# Altium integrated library Linear Technology Power Management Switching Regulator LTC1174-LTC3901.IntLib: 2647 symbols (part 88 of 364)
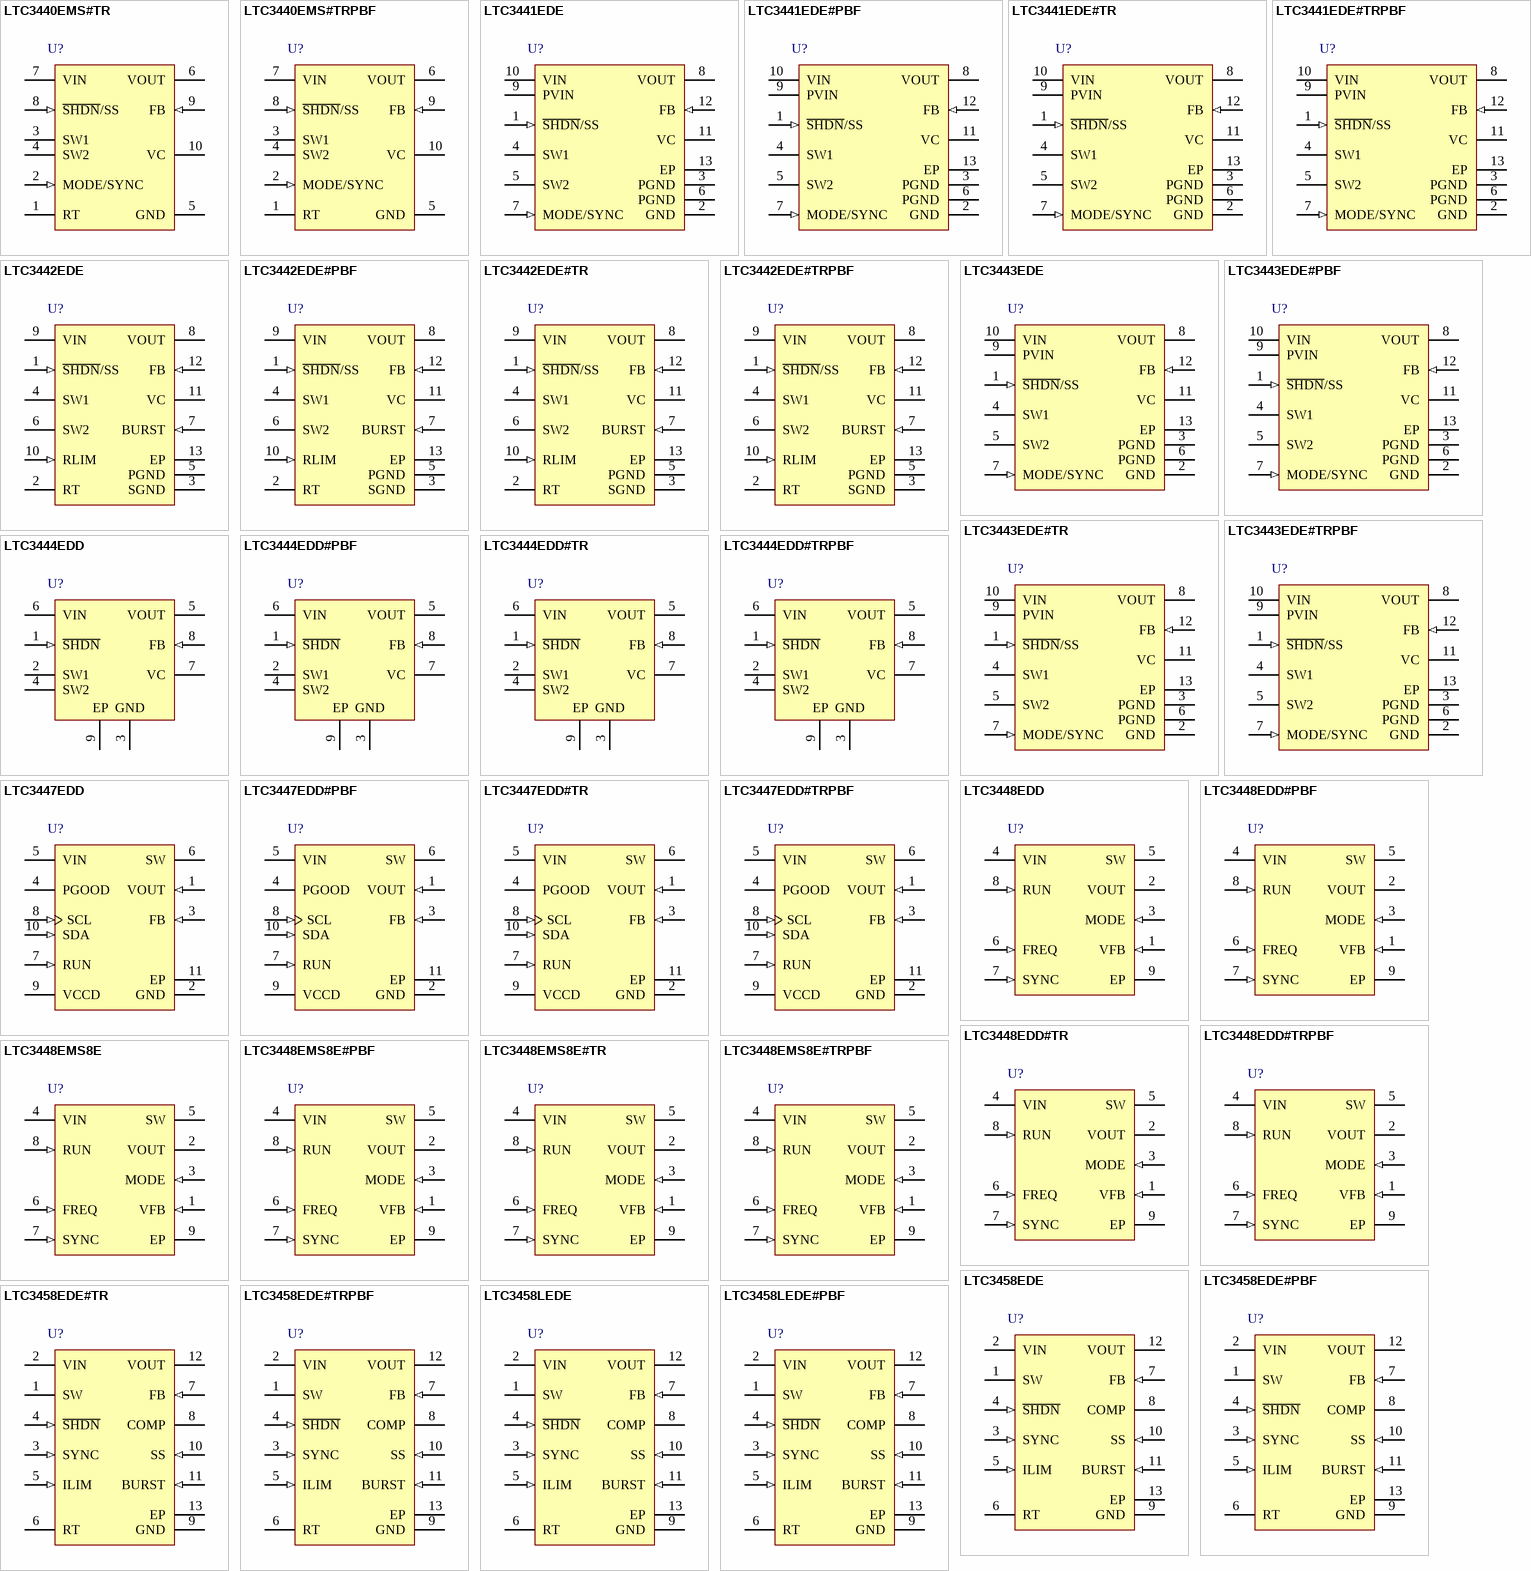
[diagram p160: symbols LTC3440EMS#TR to LTC3458LEDE#PBF]

## LTC3448EDD#PBF
designator U?
1.5 MHz / 2.25 MHz, 600 mA Synchronous Step-Down Regulator with LDO Mode, 8-pin SON (DD-8), -40 to 85 degC, Pb-Free; Manufacturer: Linear Technology; PartNumber: LTC3448EDD#PBF; Number of Outputs: 1; PackageVersion: Jun-10; PackageReference: DD-8; PackageDescription: 8-Pin Plastic DFN, Body 3 x 3 mm, Pitch 0.5 mm; Supplier 1: Digi-Key; Supplier Part Number 1: LTC3448EDD#PBF-ND; RoHS: TRUE; Mounting Technology: Surface Mount; Code_JEDEC: MO-229; ComponentLink1Description: Manufacturer URL; ComponentLink1URL: http://www.linear.com/; ComponentLink2Description: Datasheet; ComponentLink2URL: http://cds.linear.com/docs/en/datasheet/3448f.pdf; ComponentLink3Description: Package Specification; ComponentLink3URL: http://cds.linear.com/docs/en/packaging/DFN_8_05-08-1698.pdf
footprint LT-DD-8_V (SON, 8-Leads, Body 3x3mm, Pitch 0.5mm, Thermal Pad 1.65x2.38 mm)
pins: 1 VFB (in) "Feedback Pin. This pin receives the feedback voltage from an external resistive divider across the output.", 2 VOUT (power) "Output Pin. This pin connects to an external resistor divider and the linear regulator output. Connect externally to the inductor and the output capacitor. The internal linear regulator will supply current up to the (See Datasheet)", 3 MODE (in) "Linear Regulator Control. Grounding this pin turns off the linear regulator. Setting this pin to VIN turns on the linear regulator regardless of the load current. Tying this pin midrange (i.e., to VOUT) will place the linear (See Datasheet)", 4 VIN (power) "Main Supply Pin. This pin must be closely decoupled to GND with a 2.2uF or greater ceramic capacitor.", 5 SW (power) "Switch Node Connection to Inductor. This pin connects to the drains of the internal main and synchronous power MOSFET switches.", 6 FREQ (in) "Frequency Select. Switching frequency is set to 1.5MHz when FREQ = 0V and to 2.25MHz when FREQ = VIN. Do not float this pin.", 7 SYNC (in) "External Synchronization Pin. The oscillation frequency can be synchronized to an external oscillator applied to this pin. For external frequencies above 2.2MHz, pull FREQ high.", 8 RUN (in) "Run Control Input. Forcing this pin above 1.5V enables the part. Forcing this pin below 0.3V shuts down the device. In shutdown, all functions are disabled drawing <1uA supply current. Do not leave RUN floating.", 9 EP (power) "Ground. This pin must be soldered to PCB."

## LTC3448EDD#TR
designator U?
1.5 MHz / 2.25 MHz, 600 mA Synchronous Step-Down Regulator with LDO Mode, 8-pin SON (DD-8), -40 to 85 degC, Tape and Reel; Manufacturer: Linear Technology; PartNumber: LTC3448EDD#TR; Number of Outputs: 1; PackageVersion: Jun-10; PackageReference: DD-8; PackageDescription: 8-Pin Plastic DFN, Body 3 x 3 mm, Pitch 0.5 mm; Packing: Tape and Reel; RoHS: FALSE; Mounting Technology: Surface Mount; Code_JEDEC: MO-229; ComponentLink1Description: Manufacturer URL; ComponentLink1URL: http://www.linear.com/; ComponentLink2Description: Datasheet; ComponentLink2URL: http://cds.linear.com/docs/en/datasheet/3448f.pdf; ComponentLink3Description: Package Specification; ComponentLink3URL: http://cds.linear.com/docs/en/packaging/DFN_8_05-08-1698.pdf
footprint LT-DD-8_V (SON, 8-Leads, Body 3x3mm, Pitch 0.5mm, Thermal Pad 1.65x2.38 mm)
pins: 1 VFB (in) "Feedback Pin. This pin receives the feedback voltage from an external resistive divider across the output.", 2 VOUT (power) "Output Pin. This pin connects to an external resistor divider and the linear regulator output. Connect externally to the inductor and the output capacitor. The internal linear regulator will supply current up to the (See Datasheet)", 3 MODE (in) "Linear Regulator Control. Grounding this pin turns off the linear regulator. Setting this pin to VIN turns on the linear regulator regardless of the load current. Tying this pin midrange (i.e., to VOUT) will place the linear (See Datasheet)", 4 VIN (power) "Main Supply Pin. This pin must be closely decoupled to GND with a 2.2uF or greater ceramic capacitor.", 5 SW (power) "Switch Node Connection to Inductor. This pin connects to the drains of the internal main and synchronous power MOSFET switches.", 6 FREQ (in) "Frequency Select. Switching frequency is set to 1.5MHz when FREQ = 0V and to 2.25MHz when FREQ = VIN. Do not float this pin.", 7 SYNC (in) "External Synchronization Pin. The oscillation frequency can be synchronized to an external oscillator applied to this pin. For external frequencies above 2.2MHz, pull FREQ high.", 8 RUN (in) "Run Control Input. Forcing this pin above 1.5V enables the part. Forcing this pin below 0.3V shuts down the device. In shutdown, all functions are disabled drawing <1uA supply current. Do not leave RUN floating.", 9 EP (power) "Ground. This pin must be soldered to PCB."

## LTC3448EDD#TRPBF
designator U?
1.5 MHz / 2.25 MHz, 600 mA Synchronous Step-Down Regulator with LDO Mode, 8-pin SON (DD-8), -40 to 85 degC, Pb-Free, Tape and Reel; Manufacturer: Linear Technology; PartNumber: LTC3448EDD#TRPBF; Number of Outputs: 1; PackageVersion: Jun-10; PackageReference: DD-8; PackageDescription: 8-Pin Plastic DFN, Body 3 x 3 mm, Pitch 0.5 mm; Supplier 1: Digi-Key; Supplier Part Number 1: LTC3448EDD#TRPBF-ND; Packing: Tape and Reel; RoHS: TRUE; Mounting Technology: Surface Mount; Code_JEDEC: MO-229; ComponentLink1Description: Manufacturer URL; ComponentLink1URL: http://www.linear.com/; ComponentLink2Description: Datasheet; ComponentLink2URL: http://cds.linear.com/docs/en/datasheet/3448f.pdf; ComponentLink3Description: Package Specification; ComponentLink3URL: http://cds.linear.com/docs/en/packaging/DFN_8_05-08-1698.pdf
footprint LT-DD-8_V (SON, 8-Leads, Body 3x3mm, Pitch 0.5mm, Thermal Pad 1.65x2.38 mm)
pins: 1 VFB (in) "Feedback Pin. This pin receives the feedback voltage from an external resistive divider across the output.", 2 VOUT (power) "Output Pin. This pin connects to an external resistor divider and the linear regulator output. Connect externally to the inductor and the output capacitor. The internal linear regulator will supply current up to the (See Datasheet)", 3 MODE (in) "Linear Regulator Control. Grounding this pin turns off the linear regulator. Setting this pin to VIN turns on the linear regulator regardless of the load current. Tying this pin midrange (i.e., to VOUT) will place the linear (See Datasheet)", 4 VIN (power) "Main Supply Pin. This pin must be closely decoupled to GND with a 2.2uF or greater ceramic capacitor.", 5 SW (power) "Switch Node Connection to Inductor. This pin connects to the drains of the internal main and synchronous power MOSFET switches.", 6 FREQ (in) "Frequency Select. Switching frequency is set to 1.5MHz when FREQ = 0V and to 2.25MHz when FREQ = VIN. Do not float this pin.", 7 SYNC (in) "External Synchronization Pin. The oscillation frequency can be synchronized to an external oscillator applied to this pin. For external frequencies above 2.2MHz, pull FREQ high.", 8 RUN (in) "Run Control Input. Forcing this pin above 1.5V enables the part. Forcing this pin below 0.3V shuts down the device. In shutdown, all functions are disabled drawing <1uA supply current. Do not leave RUN floating.", 9 EP (power) "Ground. This pin must be soldered to PCB."

## LTC3448EMS8E
designator U?
1.5 MHz / 2.25 MHz, 600 mA Synchronous Step-Down Regulator with LDO Mode, 8-pin SOP (MS8E-8), -40 to 85 degC; Manufacturer: Linear Technology; PartNumber: LTC3448EMS8E; Number of Outputs: 1; PackageVersion: Rev. E; PackageReference: MS8E-8; PackageDescription: 8-Pin Plastic MSOP, Exposed Die Pad, Body 3 x 3 mm, Pitch 0.65 mm; Supplier 1: Digi-Key; Supplier Part Number 1: LTC3448EMS8E-ND; RoHS: FALSE; Mounting Technology: Surface Mount; ComponentLink1Description: Manufacturer URL; ComponentLink1URL: http://www.linear.com/; ComponentLink2Description: Datasheet; ComponentLink2URL: http://cds.linear.com/docs/en/datasheet/3448f.pdf; ComponentLink3Description: Package Specification; ComponentLink3URL: http://cds.linear.com/docs/en/datasheet/4070fc.pdf
footprint LT-MS8E-8-2060X1830TP_N (SOP, 8-Leads, Body 3.1x3.1mm, Pitch 0.65mm, Thermal Pad 2.162x1.932mm, IPC Medium Density)
footprint LT-MS8E-8-2060X1830TP_L (SOP, 8-Leads, Body 3.1x3.1mm, Pitch 0.65mm, Thermal Pad 2.162x1.932mm, IPC High Density)
footprint LT-MS8E-8-2060X1830TP_M (SOP, 8-Leads, Body 3.1x3.1mm, Pitch 0.65mm, Thermal Pad 2.162x1.932mm, IPC Low Density)
pins: 1 VFB (in) "Feedback Pin. This pin receives the feedback voltage from an external resistive divider across the output.", 2 VOUT (power) "Output Pin. This pin connects to an external resistor divider and the linear regulator output. Connect externally to the inductor and the output capacitor. The internal linear regulator will supply current up to the (See Datasheet)", 3 MODE (in) "Linear Regulator Control. Grounding this pin turns off the linear regulator. Setting this pin to VIN turns on the linear regulator regardless of the load current. Tying this pin midrange (i.e., to VOUT) will place the linear (See Datasheet)", 4 VIN (power) "Main Supply Pin. This pin must be closely decoupled to GND with a 2.2uF or greater ceramic capacitor.", 5 SW (power) "Switch Node Connection to Inductor. This pin connects to the drains of the internal main and synchronous power MOSFET switches.", 6 FREQ (in) "Frequency Select. Switching frequency is set to 1.5MHz when FREQ = 0V and to 2.25MHz when FREQ = VIN. Do not float this pin.", 7 SYNC (in) "External Synchronization Pin. The oscillation frequency can be synchronized to an external oscillator applied to this pin. For external frequencies above 2.2MHz, pull FREQ high.", 8 RUN (in) "Run Control Input. Forcing this pin above 1.5V enables the part. Forcing this pin below 0.3V shuts down the device. In shutdown, all functions are disabled drawing <1uA supply current. Do not leave RUN floating.", 9 EP (power) "Ground. This pin must be soldered to PCB."

## LTC3448EMS8E#PBF
designator U?
1.5 MHz / 2.25 MHz, 600 mA Synchronous Step-Down Regulator with LDO Mode, 8-pin SOP (MS8E-8), -40 to 85 degC, Pb-Free; Manufacturer: Linear Technology; PartNumber: LTC3448EMS8E#PBF; Number of Outputs: 1; PackageVersion: Rev. E; PackageReference: MS8E-8; PackageDescription: 8-Pin Plastic MSOP, Exposed Die Pad, Body 3 x 3 mm, Pitch 0.65 mm; Supplier 1: Digi-Key; Supplier Part Number 1: LTC3448EMS8E#PBF-ND; Supplier 2: Newark; Supplier Part Number 2: 56M7831; RoHS: TRUE; Mounting Technology: Surface Mount; ComponentLink1Description: Manufacturer URL; ComponentLink1URL: http://www.linear.com/; ComponentLink2Description: Datasheet; ComponentLink2URL: http://cds.linear.com/docs/en/datasheet/3448f.pdf; ComponentLink3Description: Package Specification; ComponentLink3URL: http://cds.linear.com/docs/en/datasheet/4070fc.pdf
footprint LT-MS8E-8-2060X1830TP_N (SOP, 8-Leads, Body 3.1x3.1mm, Pitch 0.65mm, Thermal Pad 2.162x1.932mm, IPC Medium Density)
footprint LT-MS8E-8-2060X1830TP_L (SOP, 8-Leads, Body 3.1x3.1mm, Pitch 0.65mm, Thermal Pad 2.162x1.932mm, IPC High Density)
footprint LT-MS8E-8-2060X1830TP_M (SOP, 8-Leads, Body 3.1x3.1mm, Pitch 0.65mm, Thermal Pad 2.162x1.932mm, IPC Low Density)
pins: 1 VFB (in) "Feedback Pin. This pin receives the feedback voltage from an external resistive divider across the output.", 2 VOUT (power) "Output Pin. This pin connects to an external resistor divider and the linear regulator output. Connect externally to the inductor and the output capacitor. The internal linear regulator will supply current up to the (See Datasheet)", 3 MODE (in) "Linear Regulator Control. Grounding this pin turns off the linear regulator. Setting this pin to VIN turns on the linear regulator regardless of the load current. Tying this pin midrange (i.e., to VOUT) will place the linear (See Datasheet)", 4 VIN (power) "Main Supply Pin. This pin must be closely decoupled to GND with a 2.2uF or greater ceramic capacitor.", 5 SW (power) "Switch Node Connection to Inductor. This pin connects to the drains of the internal main and synchronous power MOSFET switches.", 6 FREQ (in) "Frequency Select. Switching frequency is set to 1.5MHz when FREQ = 0V and to 2.25MHz when FREQ = VIN. Do not float this pin.", 7 SYNC (in) "External Synchronization Pin. The oscillation frequency can be synchronized to an external oscillator applied to this pin. For external frequencies above 2.2MHz, pull FREQ high.", 8 RUN (in) "Run Control Input. Forcing this pin above 1.5V enables the part. Forcing this pin below 0.3V shuts down the device. In shutdown, all functions are disabled drawing <1uA supply current. Do not leave RUN floating.", 9 EP (power) "Ground. This pin must be soldered to PCB."

## LTC3448EMS8E#TR
designator U?
1.5 MHz / 2.25 MHz, 600 mA Synchronous Step-Down Regulator with LDO Mode, 8-pin SOP (MS8E-8), -40 to 85 degC, Tape and Reel; Manufacturer: Linear Technology; PartNumber: LTC3448EMS8E#TR; Number of Outputs: 1; PackageVersion: Rev. E; PackageReference: MS8E-8; PackageDescription: 8-Pin Plastic MSOP, Exposed Die Pad, Body 3 x 3 mm, Pitch 0.65 mm; Packing: Tape and Reel; RoHS: FALSE; Mounting Technology: Surface Mount; ComponentLink1Description: Manufacturer URL; ComponentLink1URL: http://www.linear.com/; ComponentLink2Description: Datasheet; ComponentLink2URL: http://cds.linear.com/docs/en/datasheet/3448f.pdf; ComponentLink3Description: Package Specification; ComponentLink3URL: http://cds.linear.com/docs/en/datasheet/4070fc.pdf
footprint LT-MS8E-8-2060X1830TP_N (SOP, 8-Leads, Body 3.1x3.1mm, Pitch 0.65mm, Thermal Pad 2.162x1.932mm, IPC Medium Density)
footprint LT-MS8E-8-2060X1830TP_L (SOP, 8-Leads, Body 3.1x3.1mm, Pitch 0.65mm, Thermal Pad 2.162x1.932mm, IPC High Density)
footprint LT-MS8E-8-2060X1830TP_M (SOP, 8-Leads, Body 3.1x3.1mm, Pitch 0.65mm, Thermal Pad 2.162x1.932mm, IPC Low Density)
pins: 1 VFB (in) "Feedback Pin. This pin receives the feedback voltage from an external resistive divider across the output.", 2 VOUT (power) "Output Pin. This pin connects to an external resistor divider and the linear regulator output. Connect externally to the inductor and the output capacitor. The internal linear regulator will supply current up to the (See Datasheet)", 3 MODE (in) "Linear Regulator Control. Grounding this pin turns off the linear regulator. Setting this pin to VIN turns on the linear regulator regardless of the load current. Tying this pin midrange (i.e., to VOUT) will place the linear (See Datasheet)", 4 VIN (power) "Main Supply Pin. This pin must be closely decoupled to GND with a 2.2uF or greater ceramic capacitor.", 5 SW (power) "Switch Node Connection to Inductor. This pin connects to the drains of the internal main and synchronous power MOSFET switches.", 6 FREQ (in) "Frequency Select. Switching frequency is set to 1.5MHz when FREQ = 0V and to 2.25MHz when FREQ = VIN. Do not float this pin.", 7 SYNC (in) "External Synchronization Pin. The oscillation frequency can be synchronized to an external oscillator applied to this pin. For external frequencies above 2.2MHz, pull FREQ high.", 8 RUN (in) "Run Control Input. Forcing this pin above 1.5V enables the part. Forcing this pin below 0.3V shuts down the device. In shutdown, all functions are disabled drawing <1uA supply current. Do not leave RUN floating.", 9 EP (power) "Ground. This pin must be soldered to PCB."

## LTC3448EMS8E#TRPBF
designator U?
1.5 MHz / 2.25 MHz, 600 mA Synchronous Step-Down Regulator with LDO Mode, 8-pin SOP (MS8E-8), -40 to 85 degC, Pb-Free, Tape and Reel; Manufacturer: Linear Technology; PartNumber: LTC3448EMS8E#TRPBF; Number of Outputs: 1; PackageVersion: Rev. E; PackageReference: MS8E-8; PackageDescription: 8-Pin Plastic MSOP, Exposed Die Pad, Body 3 x 3 mm, Pitch 0.65 mm; Supplier 1: Digi-Key; Supplier Part Number 1: LTC3448EMS8E#TRPBF-ND; Packing: Tape and Reel; RoHS: TRUE; Mounting Technology: Surface Mount; ComponentLink1Description: Manufacturer URL; ComponentLink1URL: http://www.linear.com/; ComponentLink2Description: Datasheet; ComponentLink2URL: http://cds.linear.com/docs/en/datasheet/3448f.pdf; ComponentLink3Description: Package Specification; ComponentLink3URL: http://cds.linear.com/docs/en/datasheet/4070fc.pdf
footprint LT-MS8E-8-2060X1830TP_N (SOP, 8-Leads, Body 3.1x3.1mm, Pitch 0.65mm, Thermal Pad 2.162x1.932mm, IPC Medium Density)
footprint LT-MS8E-8-2060X1830TP_L (SOP, 8-Leads, Body 3.1x3.1mm, Pitch 0.65mm, Thermal Pad 2.162x1.932mm, IPC High Density)
footprint LT-MS8E-8-2060X1830TP_M (SOP, 8-Leads, Body 3.1x3.1mm, Pitch 0.65mm, Thermal Pad 2.162x1.932mm, IPC Low Density)
pins: 1 VFB (in) "Feedback Pin. This pin receives the feedback voltage from an external resistive divider across the output.", 2 VOUT (power) "Output Pin. This pin connects to an external resistor divider and the linear regulator output. Connect externally to the inductor and the output capacitor. The internal linear regulator will supply current up to the (See Datasheet)", 3 MODE (in) "Linear Regulator Control. Grounding this pin turns off the linear regulator. Setting this pin to VIN turns on the linear regulator regardless of the load current. Tying this pin midrange (i.e., to VOUT) will place the linear (See Datasheet)", 4 VIN (power) "Main Supply Pin. This pin must be closely decoupled to GND with a 2.2uF or greater ceramic capacitor.", 5 SW (power) "Switch Node Connection to Inductor. This pin connects to the drains of the internal main and synchronous power MOSFET switches.", 6 FREQ (in) "Frequency Select. Switching frequency is set to 1.5MHz when FREQ = 0V and to 2.25MHz when FREQ = VIN. Do not float this pin.", 7 SYNC (in) "External Synchronization Pin. The oscillation frequency can be synchronized to an external oscillator applied to this pin. For external frequencies above 2.2MHz, pull FREQ high.", 8 RUN (in) "Run Control Input. Forcing this pin above 1.5V enables the part. Forcing this pin below 0.3V shuts down the device. In shutdown, all functions are disabled drawing <1uA supply current. Do not leave RUN floating.", 9 EP (power) "Ground. This pin must be soldered to PCB."

## LTC3458EDE
designator U?
1.4 A, 1.5 MHz Synchronous Step-Up DC/DC Converter with Output Disconnect, 12-pin SON (DE-UE-12), -40 to 85 degC; Manufacturer: Linear Technology; PartNumber: LTC3458EDE; Frequency Adjust Range: 400kHz - 1.5MHz; Number of Outputs: 1; DatasheetVersion: Rev. A; PackageVersion: Rev. D, 06/2010; PackageReference: DE-UE-12; PackageDescription: 12-Pin Plastic DFN, Body 4 x 3 mm, Pitch 0.5 mm; Supplier 1: Digi-Key; Supplier Part Number 1: LTC3458EDE-ND; RoHS: FALSE; Mounting Technology: Surface Mount; Code_JEDEC: MO-229; ComponentLink1Description: Manufacturer URL; ComponentLink1URL: http://www.linear.com/; ComponentLink2Description: Datasheet; ComponentLink2URL: http://cds.linear.com/docs/en/datasheet/3458Lfa.pdf; ComponentLink3Description: Package Specification; ComponentLink3URL: http://cds.linear.com/docs/en/packaging/DFN_12_05-08-1695.pdf
footprint LT-DE-UE-12_V (SON, 12-Leads, Body 4x3mm, Pitch 0.5mm, Thermal Pad 3.3x1.7mm)
pins: 1 SW "Switch Pin for Inductor Connection. During discontinuous conduction mode an antiring resistor connects SW to VIN to reduce noise.", 2 VIN (power) "Input Supply Pin. Connect this to the input supply and decouple with 1uF minimum.", 3 SYNC (in) "Oscillator Synchronization Pin. A clock pulse width of 100ns to 2us is required to synchronize the internal oscillator. This pin is disabled when grounded.", 4 ~{SHDN} (in) "Shutdown Pin. Grounding this pin shuts down the IC. Connect to >1.25V to enable.", 5 ILIM (in) "Adjustable Peak Current Limit. Connect a resistor from ILIM to GND to program the peak inductor current according to the following formula: ILIMIT=180/RILIM where ILIMIT is in amps and RILIM is in kohm.", 6 RT "Connect a resistor to ground to program the oscillator frequency, according to the formula:  Fosc = 1/(0.2+0.004 ?RT) where fOSC is in MHz and RT is in kohm. Oscillator frequency can be programmed between 400kHz and (See Datasheet)", 7 FB (in) "Connect Resistor Divider Tap Here. The output voltage can be adjusted from 2V to 6V. Feedback reference voltage is typically 1.225V.", 8 COMP "gm Error Amp Output. A frequency compensation network is connected from this pin to ground to compensate the loop. See the section “Compensating the Feedback Loop?for guidelines.", 9 GND (power) "Signal Ground Pin.", 10 SS (in) "Connect a capacitor between this pin and ground to set soft-start period. 5uA of current is sourced from SS during soft-start.", 11 BURST (in) "Burst Mode Threshold Adjust Pin. A resistor/capacitor combination from this pin to ground programs the average load current at which automatic Burst Mode operation is entered.", 12 VOUT (power) "Output of the Synchronous Rectifier and Internal Gate Drive Source for the Power Switches.", 13 EP (power) "Must be soldered to PCB ground, for electrical contact and optimum thermal performance."

## LTC3458EDE#PBF
designator U?
1.4 A, 1.5 MHz Synchronous Step-Up DC/DC Converter with Output Disconnect, 12-pin SON (DE-UE-12), -40 to 85 degC, Pb-Free; Manufacturer: Linear Technology; PartNumber: LTC3458EDE#PBF; Frequency Adjust Range: 400kHz - 1.5MHz; Number of Outputs: 1; DatasheetVersion: Rev. A; PackageVersion: Rev. D, 06/2010; PackageReference: DE-UE-12; PackageDescription: 12-Pin Plastic DFN, Body 4 x 3 mm, Pitch 0.5 mm; Supplier 1: Digi-Key; Supplier Part Number 1: LTC3458EDE#PBF-ND; Supplier 2: Farnell; Supplier Part Number 2: 1273945; Supplier 3: Newark; Supplier Part Number 3: 56M7859; RoHS: TRUE; Mounting Technology: Surface Mount; Code_JEDEC: MO-229; ComponentLink1Description: Manufacturer URL; ComponentLink1URL: http://www.linear.com/; ComponentLink2Description: Datasheet; ComponentLink2URL: http://cds.linear.com/docs/en/datasheet/3458Lfa.pdf; ComponentLink3Description: Package Specification; ComponentLink3URL: http://cds.linear.com/docs/en/packaging/DFN_12_05-08-1695.pdf
footprint LT-DE-UE-12_V (SON, 12-Leads, Body 4x3mm, Pitch 0.5mm, Thermal Pad 3.3x1.7mm)
pins: 1 SW "Switch Pin for Inductor Connection. During discontinuous conduction mode an antiring resistor connects SW to VIN to reduce noise.", 2 VIN (power) "Input Supply Pin. Connect this to the input supply and decouple with 1uF minimum.", 3 SYNC (in) "Oscillator Synchronization Pin. A clock pulse width of 100ns to 2us is required to synchronize the internal oscillator. This pin is disabled when grounded.", 4 ~{SHDN} (in) "Shutdown Pin. Grounding this pin shuts down the IC. Connect to >1.25V to enable.", 5 ILIM (in) "Adjustable Peak Current Limit. Connect a resistor from ILIM to GND to program the peak inductor current according to the following formula: ILIMIT=180/RILIM where ILIMIT is in amps and RILIM is in kohm.", 6 RT "Connect a resistor to ground to program the oscillator frequency, according to the formula:  Fosc = 1/(0.2+0.004 ?RT) where fOSC is in MHz and RT is in kohm. Oscillator frequency can be programmed between 400kHz and (See Datasheet)", 7 FB (in) "Connect Resistor Divider Tap Here. The output voltage can be adjusted from 2V to 6V. Feedback reference voltage is typically 1.225V.", 8 COMP "gm Error Amp Output. A frequency compensation network is connected from this pin to ground to compensate the loop. See the section “Compensating the Feedback Loop?for guidelines.", 9 GND (power) "Signal Ground Pin.", 10 SS (in) "Connect a capacitor between this pin and ground to set soft-start period. 5uA of current is sourced from SS during soft-start.", 11 BURST (in) "Burst Mode Threshold Adjust Pin. A resistor/capacitor combination from this pin to ground programs the average load current at which automatic Burst Mode operation is entered.", 12 VOUT (power) "Output of the Synchronous Rectifier and Internal Gate Drive Source for the Power Switches.", 13 EP (power) "Must be soldered to PCB ground, for electrical contact and optimum thermal performance."

## LTC3458EDE#TR
designator U?
1.4 A, 1.5 MHz Synchronous Step-Up DC/DC Converter with Output Disconnect, 12-pin SON (DE-UE-12), -40 to 85 degC, Tape and Reel; Manufacturer: Linear Technology; PartNumber: LTC3458EDE#TR; Frequency Adjust Range: 400kHz - 1.5MHz; Number of Outputs: 1; DatasheetVersion: Rev. A; PackageVersion: Rev. D, 06/2010; PackageReference: DE-UE-12; PackageDescription: 12-Pin Plastic DFN, Body 4 x 3 mm, Pitch 0.5 mm; Packing: Tape and Reel; RoHS: FALSE; Mounting Technology: Surface Mount; Code_JEDEC: MO-229; ComponentLink1Description: Manufacturer URL; ComponentLink1URL: http://www.linear.com/; ComponentLink2Description: Datasheet; ComponentLink2URL: http://cds.linear.com/docs/en/datasheet/3458Lfa.pdf; ComponentLink3Description: Package Specification; ComponentLink3URL: http://cds.linear.com/docs/en/packaging/DFN_12_05-08-1695.pdf
footprint LT-DE-UE-12_V (SON, 12-Leads, Body 4x3mm, Pitch 0.5mm, Thermal Pad 3.3x1.7mm)
pins: 1 SW "Switch Pin for Inductor Connection. During discontinuous conduction mode an antiring resistor connects SW to VIN to reduce noise.", 2 VIN (power) "Input Supply Pin. Connect this to the input supply and decouple with 1uF minimum.", 3 SYNC (in) "Oscillator Synchronization Pin. A clock pulse width of 100ns to 2us is required to synchronize the internal oscillator. This pin is disabled when grounded.", 4 ~{SHDN} (in) "Shutdown Pin. Grounding this pin shuts down the IC. Connect to >1.25V to enable.", 5 ILIM (in) "Adjustable Peak Current Limit. Connect a resistor from ILIM to GND to program the peak inductor current according to the following formula: ILIMIT=180/RILIM where ILIMIT is in amps and RILIM is in kohm.", 6 RT "Connect a resistor to ground to program the oscillator frequency, according to the formula:  Fosc = 1/(0.2+0.004 ?RT) where fOSC is in MHz and RT is in kohm. Oscillator frequency can be programmed between 400kHz and (See Datasheet)", 7 FB (in) "Connect Resistor Divider Tap Here. The output voltage can be adjusted from 2V to 6V. Feedback reference voltage is typically 1.225V.", 8 COMP "gm Error Amp Output. A frequency compensation network is connected from this pin to ground to compensate the loop. See the section “Compensating the Feedback Loop?for guidelines.", 9 GND (power) "Signal Ground Pin.", 10 SS (in) "Connect a capacitor between this pin and ground to set soft-start period. 5uA of current is sourced from SS during soft-start.", 11 BURST (in) "Burst Mode Threshold Adjust Pin. A resistor/capacitor combination from this pin to ground programs the average load current at which automatic Burst Mode operation is entered.", 12 VOUT (power) "Output of the Synchronous Rectifier and Internal Gate Drive Source for the Power Switches.", 13 EP (power) "Must be soldered to PCB ground, for electrical contact and optimum thermal performance."

## LTC3458EDE#TRPBF
designator U?
1.4 A, 1.5 MHz Synchronous Step-Up DC/DC Converter with Output Disconnect, 12-pin SON (DE-UE-12), -40 to 85 degC, Pb-Free, Tape and Reel; Manufacturer: Linear Technology; PartNumber: LTC3458EDE#TRPBF; Frequency Adjust Range: 400kHz - 1.5MHz; Number of Outputs: 1; DatasheetVersion: Rev. A; PackageVersion: Rev. D, 06/2010; PackageReference: DE-UE-12; PackageDescription: 12-Pin Plastic DFN, Body 4 x 3 mm, Pitch 0.5 mm; Supplier 1: Digi-Key; Supplier Part Number 1: LTC3458EDE#TRPBF-ND; Supplier 2: Newark; Supplier Part Number 2: 56M7861; Packing: Tape and Reel; RoHS: TRUE; Mounting Technology: Surface Mount; Code_JEDEC: MO-229; ComponentLink1Description: Manufacturer URL; ComponentLink1URL: http://www.linear.com/; ComponentLink2Description: Datasheet; ComponentLink2URL: http://cds.linear.com/docs/en/datasheet/3458Lfa.pdf; ComponentLink3Description: Package Specification; ComponentLink3URL: http://cds.linear.com/docs/en/packaging/DFN_12_05-08-1695.pdf
footprint LT-DE-UE-12_V (SON, 12-Leads, Body 4x3mm, Pitch 0.5mm, Thermal Pad 3.3x1.7mm)
pins: 1 SW "Switch Pin for Inductor Connection. During discontinuous conduction mode an antiring resistor connects SW to VIN to reduce noise.", 2 VIN (power) "Input Supply Pin. Connect this to the input supply and decouple with 1uF minimum.", 3 SYNC (in) "Oscillator Synchronization Pin. A clock pulse width of 100ns to 2us is required to synchronize the internal oscillator. This pin is disabled when grounded.", 4 ~{SHDN} (in) "Shutdown Pin. Grounding this pin shuts down the IC. Connect to >1.25V to enable.", 5 ILIM (in) "Adjustable Peak Current Limit. Connect a resistor from ILIM to GND to program the peak inductor current according to the following formula: ILIMIT=180/RILIM where ILIMIT is in amps and RILIM is in kohm.", 6 RT "Connect a resistor to ground to program the oscillator frequency, according to the formula:  Fosc = 1/(0.2+0.004 ?RT) where fOSC is in MHz and RT is in kohm. Oscillator frequency can be programmed between 400kHz and (See Datasheet)", 7 FB (in) "Connect Resistor Divider Tap Here. The output voltage can be adjusted from 2V to 6V. Feedback reference voltage is typically 1.225V.", 8 COMP "gm Error Amp Output. A frequency compensation network is connected from this pin to ground to compensate the loop. See the section “Compensating the Feedback Loop?for guidelines.", 9 GND (power) "Signal Ground Pin.", 10 SS (in) "Connect a capacitor between this pin and ground to set soft-start period. 5uA of current is sourced from SS during soft-start.", 11 BURST (in) "Burst Mode Threshold Adjust Pin. A resistor/capacitor combination from this pin to ground programs the average load current at which automatic Burst Mode operation is entered.", 12 VOUT (power) "Output of the Synchronous Rectifier and Internal Gate Drive Source for the Power Switches.", 13 EP (power) "Must be soldered to PCB ground, for electrical contact and optimum thermal performance."

## LTC3458LEDE
designator U?
1.7 A, 1.5 MHz Synchronous Step-Up DC/DC Converter with Output Disconnect, 12-pin SON (DE-UE-12), -40 to 85 degC; Manufacturer: Linear Technology; PartNumber: LTC3458LEDE; Frequency Adjust Range: 400kHz - 1.5MHz; Number of Outputs: 1; DatasheetVersion: Rev. A; PackageVersion: Rev. D, 06/2010; PackageReference: DE-UE-12; PackageDescription: 12-Pin Plastic DFN, Body 4 x 3 mm, Pitch 0.5 mm; Supplier 1: Digi-Key; Supplier Part Number 1: LTC3458LEDE-ND; RoHS: FALSE; Mounting Technology: Surface Mount; Code_JEDEC: MO-229; ComponentLink1Description: Manufacturer URL; ComponentLink1URL: http://www.linear.com/; ComponentLink2Description: Datasheet; ComponentLink2URL: http://cds.linear.com/docs/en/datasheet/3458Lfa.pdf; ComponentLink3Description: Package Specification; ComponentLink3URL: http://cds.linear.com/docs/en/packaging/DFN_12_05-08-1695.pdf
footprint LT-DE-UE-12_V (SON, 12-Leads, Body 4x3mm, Pitch 0.5mm, Thermal Pad 3.3x1.7mm)
pins: 1 SW (power) "Switch Pin for Inductor Connection. During discontinuous conduction mode an antiring resistor connects SW to VIN to reduce noise.", 2 VIN (power) "Input Supply Pin. Connect this to the input supply and decouple with 1uF minimum.", 3 SYNC (in) "Oscillator Synchronization Pin. A clock pulse width of 100ns to 2us is required to synchronize the internal oscillator. This pin is disabled when grounded.", 4 ~{SHDN} (in) "Shutdown Pin. Grounding this pin shuts down the IC. Connect to >1.25V to enable.", 5 ILIM (in) "Adjustable Peak Current Limit. Connect a resistor from ILIM to GND to program the peak inductor current according to the following formula: ILIMIT=180/RILIM where ILIMIT is in amps and RILIM is in kohm.", 6 RT "Connect a resistor to ground to program the oscillator frequency, according to the formula:  Fosc = 1/(0.2+0.004 ?RT) where fOSC is in MHz and RT is in kohm. Oscillator frequency can be programmed between 400kHz and (See Datasheet)", 7 FB (in) "Connect Resistor Divider Tap Here. The output voltage can be adjusted from 2V to 6V. Feedback reference voltage is typically 1.225V.", 8 COMP "gm Error Amp Output. A frequency compensation network is connected from this pin to ground to compensate the loop. See the section “Compensating the Feedback Loop?for guidelines.", 9 GND (power) "Signal Ground Pin.", 10 SS (in) "Connect a capacitor between this pin and ground to set soft-start period. 5uA of current is sourced from SS during soft-start.", 11 BURST (in) "Burst Mode Threshold Adjust Pin. A resistor/capacitor combination from this pin to ground programs the average load current at which automatic Burst Mode operation is entered.", 12 VOUT (power) "Output of the Synchronous Rectifier and Internal Gate Drive Source for the Power Switches.", 13 EP (power) "Must be soldered to PCB ground, for electrical contact and optimum thermal performance."

## LTC3458LEDE#PBF
designator U?
1.7 A, 1.5 MHz Synchronous Step-Up DC/DC Converter with Output Disconnect, 12-pin SON (DE-UE-12), -40 to 85 degC, Pb-Free; Manufacturer: Linear Technology; PartNumber: LTC3458LEDE#PBF; Frequency Adjust Range: 400kHz - 1.5MHz; Number of Outputs: 1; DatasheetVersion: Rev. A; PackageVersion: Rev. D, 06/2010; PackageReference: DE-UE-12; PackageDescription: 12-Pin Plastic DFN, Body 4 x 3 mm, Pitch 0.5 mm; Supplier 1: Digi-Key; Supplier Part Number 1: LTC3458LEDE#PBF-ND; Supplier 2: Newark; Supplier Part Number 2: 56M7863; RoHS: TRUE; Mounting Technology: Surface Mount; Code_JEDEC: MO-229; ComponentLink1Description: Manufacturer URL; ComponentLink1URL: http://www.linear.com/; ComponentLink2Description: Datasheet; ComponentLink2URL: http://cds.linear.com/docs/en/datasheet/3458Lfa.pdf; ComponentLink3Description: Package Specification; ComponentLink3URL: http://cds.linear.com/docs/en/packaging/DFN_12_05-08-1695.pdf
footprint LT-DE-UE-12_V (SON, 12-Leads, Body 4x3mm, Pitch 0.5mm, Thermal Pad 3.3x1.7mm)
pins: 1 SW (power) "Switch Pin for Inductor Connection. During discontinuous conduction mode an antiring resistor connects SW to VIN to reduce noise.", 2 VIN (power) "Input Supply Pin. Connect this to the input supply and decouple with 1uF minimum.", 3 SYNC (in) "Oscillator Synchronization Pin. A clock pulse width of 100ns to 2us is required to synchronize the internal oscillator. This pin is disabled when grounded.", 4 ~{SHDN} (in) "Shutdown Pin. Grounding this pin shuts down the IC. Connect to >1.25V to enable.", 5 ILIM (in) "Adjustable Peak Current Limit. Connect a resistor from ILIM to GND to program the peak inductor current according to the following formula: ILIMIT=180/RILIM where ILIMIT is in amps and RILIM is in kohm.", 6 RT "Connect a resistor to ground to program the oscillator frequency, according to the formula:  Fosc = 1/(0.2+0.004 ?RT) where fOSC is in MHz and RT is in kohm. Oscillator frequency can be programmed between 400kHz and (See Datasheet)", 7 FB (in) "Connect Resistor Divider Tap Here. The output voltage can be adjusted from 2V to 6V. Feedback reference voltage is typically 1.225V.", 8 COMP "gm Error Amp Output. A frequency compensation network is connected from this pin to ground to compensate the loop. See the section “Compensating the Feedback Loop?for guidelines.", 9 GND (power) "Signal Ground Pin.", 10 SS (in) "Connect a capacitor between this pin and ground to set soft-start period. 5uA of current is sourced from SS during soft-start.", 11 BURST (in) "Burst Mode Threshold Adjust Pin. A resistor/capacitor combination from this pin to ground programs the average load current at which automatic Burst Mode operation is entered.", 12 VOUT (power) "Output of the Synchronous Rectifier and Internal Gate Drive Source for the Power Switches.", 13 EP (power) "Must be soldered to PCB ground, for electrical contact and optimum thermal performance."

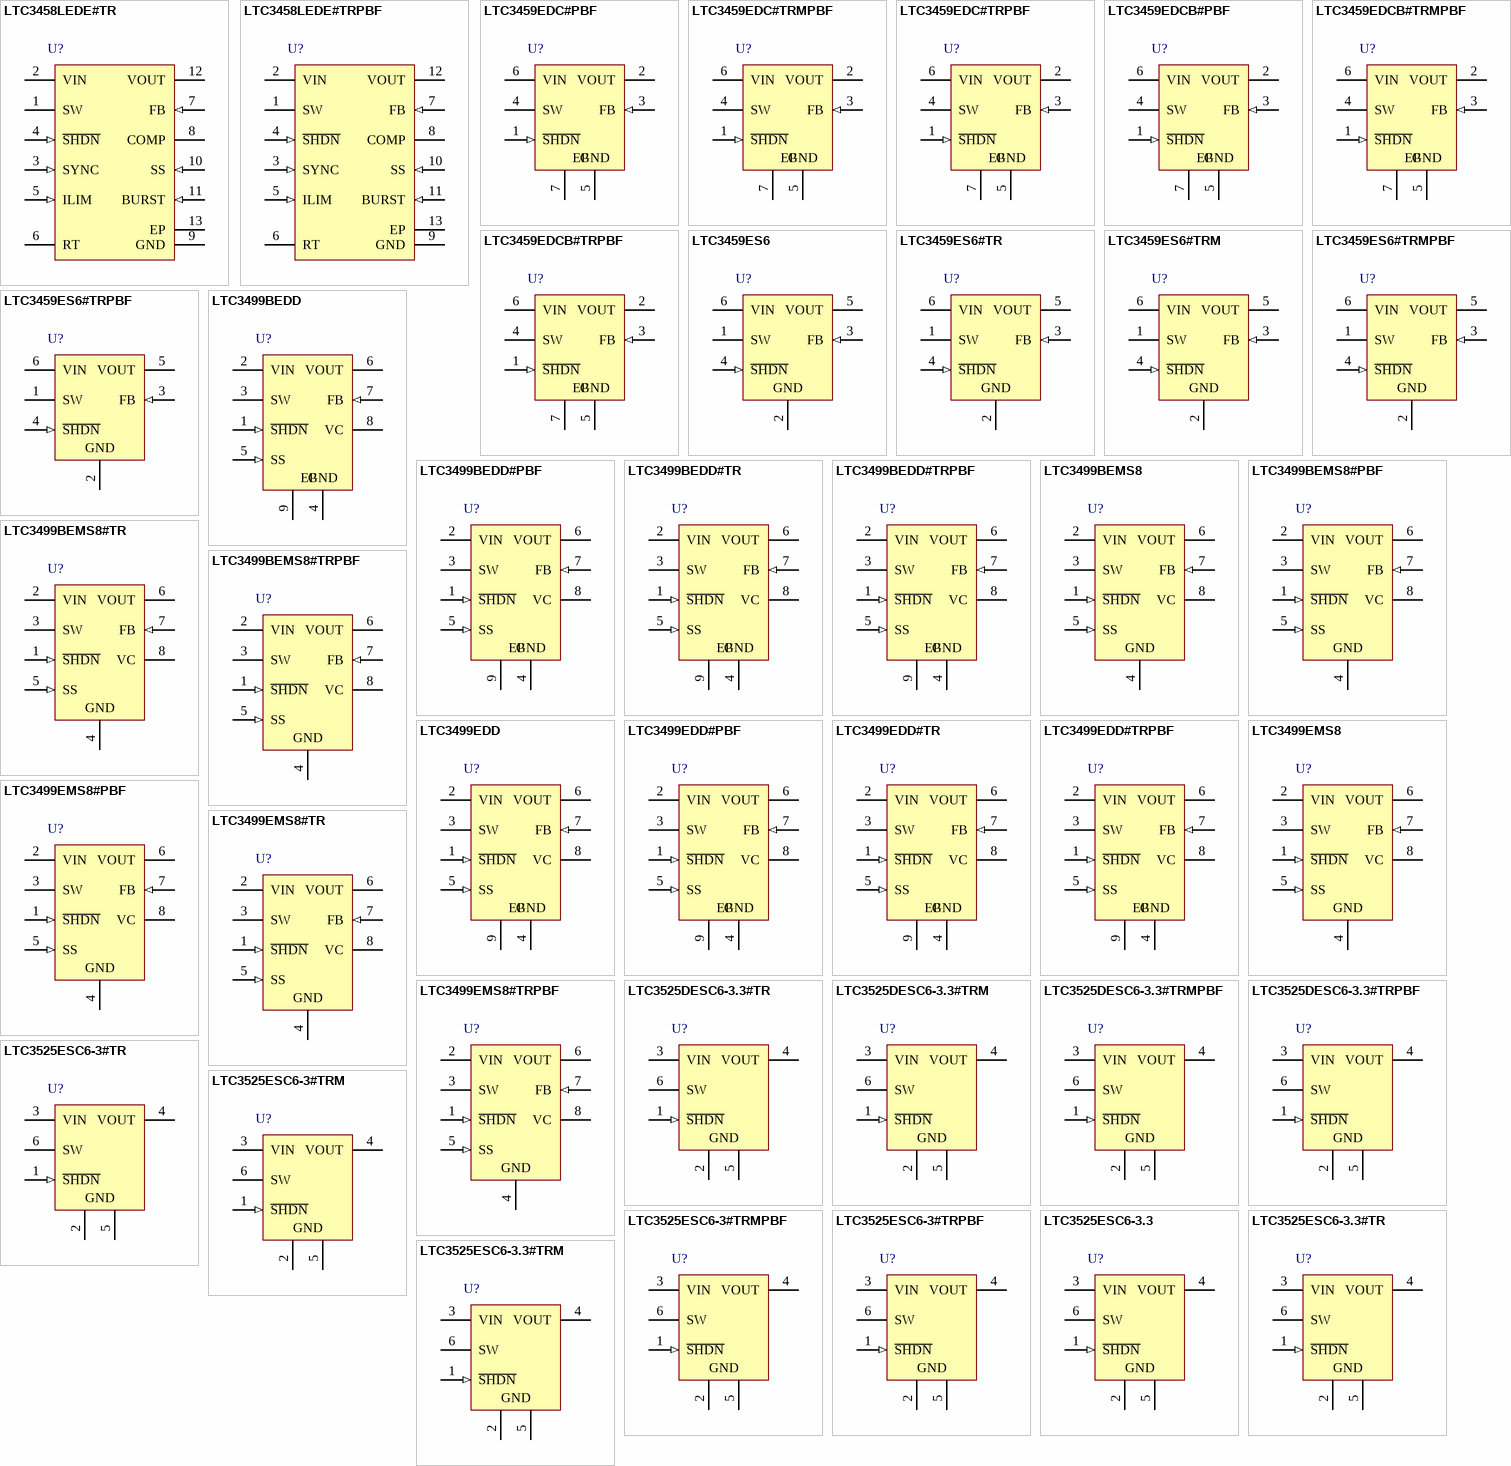
[diagram p28: symbols LTC3458LEDE#TR to LTC3525ESC6-3.3#TRM]

## LTC3458LEDE#TR
designator U?
1.7 A, 1.5 MHz Synchronous Step-Up DC/DC Converter with Output Disconnect, 12-pin SON (DE-UE-12), -40 to 85 degC, Tape and Reel; Manufacturer: Linear Technology; PartNumber: LTC3458LEDE#TR; Frequency Adjust Range: 400kHz - 1.5MHz; Number of Outputs: 1; DatasheetVersion: Rev. A; PackageVersion: Rev. D, 06/2010; PackageReference: DE-UE-12; PackageDescription: 12-Pin Plastic DFN, Body 4 x 3 mm, Pitch 0.5 mm; Packing: Tape and Reel; RoHS: FALSE; Mounting Technology: Surface Mount; Code_JEDEC: MO-229; ComponentLink1Description: Manufacturer URL; ComponentLink1URL: http://www.linear.com/; ComponentLink2Description: Datasheet; ComponentLink2URL: http://cds.linear.com/docs/en/datasheet/3458Lfa.pdf; ComponentLink3Description: Package Specification; ComponentLink3URL: http://cds.linear.com/docs/en/packaging/DFN_12_05-08-1695.pdf
footprint LT-DE-UE-12_V (SON, 12-Leads, Body 4x3mm, Pitch 0.5mm, Thermal Pad 3.3x1.7mm)
pins: 1 SW (power) "Switch Pin for Inductor Connection. During discontinuous conduction mode an antiring resistor connects SW to VIN to reduce noise.", 2 VIN (power) "Input Supply Pin. Connect this to the input supply and decouple with 1uF minimum.", 3 SYNC (in) "Oscillator Synchronization Pin. A clock pulse width of 100ns to 2us is required to synchronize the internal oscillator. This pin is disabled when grounded.", 4 ~{SHDN} (in) "Shutdown Pin. Grounding this pin shuts down the IC. Connect to >1.25V to enable.", 5 ILIM (in) "Adjustable Peak Current Limit. Connect a resistor from ILIM to GND to program the peak inductor current according to the following formula: ILIMIT=180/RILIM where ILIMIT is in amps and RILIM is in kohm.", 6 RT "Connect a resistor to ground to program the oscillator frequency, according to the formula:  Fosc = 1/(0.2+0.004 ?RT) where fOSC is in MHz and RT is in kohm. Oscillator frequency can be programmed between 400kHz and (See Datasheet)", 7 FB (in) "Connect Resistor Divider Tap Here. The output voltage can be adjusted from 2V to 6V. Feedback reference voltage is typically 1.225V.", 8 COMP "gm Error Amp Output. A frequency compensation network is connected from this pin to ground to compensate the loop. See the section “Compensating the Feedback Loop?for guidelines.", 9 GND (power) "Signal Ground Pin.", 10 SS (in) "Connect a capacitor between this pin and ground to set soft-start period. 5uA of current is sourced from SS during soft-start.", 11 BURST (in) "Burst Mode Threshold Adjust Pin. A resistor/capacitor combination from this pin to ground programs the average load current at which automatic Burst Mode operation is entered.", 12 VOUT (power) "Output of the Synchronous Rectifier and Internal Gate Drive Source for the Power Switches.", 13 EP (power) "Must be soldered to PCB ground, for electrical contact and optimum thermal performance."

## LTC3458LEDE#TRPBF
designator U?
1.7 A, 1.5 MHz Synchronous Step-Up DC/DC Converter with Output Disconnect, 12-pin SON (DE-UE-12), -40 to 85 degC, Pb-Free, Tape and Reel; Manufacturer: Linear Technology; PartNumber: LTC3458LEDE#TRPBF; Frequency Adjust Range: 400kHz - 1.5MHz; Number of Outputs: 1; DatasheetVersion: Rev. A; PackageVersion: Rev. D, 06/2010; PackageReference: DE-UE-12; PackageDescription: 12-Pin Plastic DFN, Body 4 x 3 mm, Pitch 0.5 mm; Supplier 1: Digi-Key; Supplier Part Number 1: LTC3458LEDE#TRPBF-ND; Supplier 2: Newark; Supplier Part Number 2: 56M7865; Packing: Tape and Reel; RoHS: TRUE; Mounting Technology: Surface Mount; Code_JEDEC: MO-229; ComponentLink1Description: Manufacturer URL; ComponentLink1URL: http://www.linear.com/; ComponentLink2Description: Datasheet; ComponentLink2URL: http://cds.linear.com/docs/en/datasheet/3458Lfa.pdf; ComponentLink3Description: Package Specification; ComponentLink3URL: http://cds.linear.com/docs/en/packaging/DFN_12_05-08-1695.pdf
footprint LT-DE-UE-12_V (SON, 12-Leads, Body 4x3mm, Pitch 0.5mm, Thermal Pad 3.3x1.7mm)
pins: 1 SW (power) "Switch Pin for Inductor Connection. During discontinuous conduction mode an antiring resistor connects SW to VIN to reduce noise.", 2 VIN (power) "Input Supply Pin. Connect this to the input supply and decouple with 1uF minimum.", 3 SYNC (in) "Oscillator Synchronization Pin. A clock pulse width of 100ns to 2us is required to synchronize the internal oscillator. This pin is disabled when grounded.", 4 ~{SHDN} (in) "Shutdown Pin. Grounding this pin shuts down the IC. Connect to >1.25V to enable.", 5 ILIM (in) "Adjustable Peak Current Limit. Connect a resistor from ILIM to GND to program the peak inductor current according to the following formula: ILIMIT=180/RILIM where ILIMIT is in amps and RILIM is in kohm.", 6 RT "Connect a resistor to ground to program the oscillator frequency, according to the formula:  Fosc = 1/(0.2+0.004 ?RT) where fOSC is in MHz and RT is in kohm. Oscillator frequency can be programmed between 400kHz and (See Datasheet)", 7 FB (in) "Connect Resistor Divider Tap Here. The output voltage can be adjusted from 2V to 6V. Feedback reference voltage is typically 1.225V.", 8 COMP "gm Error Amp Output. A frequency compensation network is connected from this pin to ground to compensate the loop. See the section “Compensating the Feedback Loop?for guidelines.", 9 GND (power) "Signal Ground Pin.", 10 SS (in) "Connect a capacitor between this pin and ground to set soft-start period. 5uA of current is sourced from SS during soft-start.", 11 BURST (in) "Burst Mode Threshold Adjust Pin. A resistor/capacitor combination from this pin to ground programs the average load current at which automatic Burst Mode operation is entered.", 12 VOUT (power) "Output of the Synchronous Rectifier and Internal Gate Drive Source for the Power Switches.", 13 EP (power) "Must be soldered to PCB ground, for electrical contact and optimum thermal performance."

## LTC3459EDC#PBF
designator U?
Micropower Synchronous Boost Converter, 6-pin SON (DC6-6), -40 to 85 degC, Pb-Free; Manufacturer: Linear Technology; PartNumber: LTC3459EDC#PBF; Number of Outputs: 1; DatasheetVersion: Rev. C; PackageVersion: Rev. B, 06/2010; PackageReference: DC6-6; PackageDescription: 6-Pin Plastic DFN, Body 2 x 2 mm, Pitch 0.5 mm; Supplier 1: Newark; Supplier Part Number 1: 11R8017; RoHS: TRUE; Mounting Technology: Surface Mount; Code_JEDEC: MO-229; ComponentLink1Description: Manufacturer URL; ComponentLink1URL: http://www.linear.com/; ComponentLink2Description: Datasheet; ComponentLink2URL: http://cds.linear.com/docs/en/datasheet/3459fc.pdf; ComponentLink3Description: Package Specification; ComponentLink3URL: http://cds.linear.com/docs/en/packaging/DFN_6_05-08-1703.pdf
footprint LT-DC6-6_V (SON, 6-Leads, Body 2x2mm, Pitch 0.5mm, Thermal Pad 1.42x0.61mm)
pins: 1 ~{SHDN} (in) "Master Shutdown Input. Driving S\H\D\N\ low disables all IC functions and reduces quiescent current from the battery to less than 1uA. This pin must be pulled above 1V to enable the IC.", 2 VOUT (power) "Regulated Output Voltage of the Boost Regulator. Bypass VOUT with a low ESR, ESL ceramic capacitor between 2.2uF and 10uF. VOUT ripple increases with smaller capacitors.", 3 FB (in) "Input to the Burst Mode Comparator. An external resistor divider connected between VOUT, GND and this pin sets the output voltage to: VOUT = 1.22(1 + R1/R2)", 4 SW "Switch Pin. Connect a 15uH to 33uH inductor between SW and VIN. Keep PCB trace lengths as short and wide as possible to reduce EMI and voltage overshoot. If the inductor current falls to zero, the internal P-channel MOSFET (See Datasheet)", 5 GND (power) "Signal and Power Ground. Provide a short, direct PCB path between GND and the (-) side of the fi lter capacitors on VIN and VOUT.", 6 VIN (power) "Input Supply Pin. Bypass VIN with a low ESR, ESL ceramic capacitor of at least 1uF.", 7 EP (power) "Ground. The Exposed Pad must be soldered to PCB."

## LTC3459EDC#TRMPBF
designator U?
Micropower Synchronous Boost Converter, 6-pin SON (DC6-6), -40 to 85 degC, Pb-Free, Mini Tape and Reel; Manufacturer: Linear Technology; PartNumber: LTC3459EDC#TRMPBF; Number of Outputs: 1; DatasheetVersion: Rev. C; PackageVersion: Rev. B, 06/2010; PackageReference: DC6-6; PackageDescription: 6-Pin Plastic DFN, Body 2 x 2 mm, Pitch 0.5 mm; Supplier 1: Digi-Key; Supplier Part Number 1: LTC3459EDC#TRMPBF-ND; Packing: Mini Tape and Reel; RoHS: TRUE; Mounting Technology: Surface Mount; Code_JEDEC: MO-229; ComponentLink1Description: Manufacturer URL; ComponentLink1URL: http://www.linear.com/; ComponentLink2Description: Datasheet; ComponentLink2URL: http://cds.linear.com/docs/en/datasheet/3459fc.pdf; ComponentLink3Description: Package Specification; ComponentLink3URL: http://cds.linear.com/docs/en/packaging/DFN_6_05-08-1703.pdf
footprint LT-DC6-6_V (SON, 6-Leads, Body 2x2mm, Pitch 0.5mm, Thermal Pad 1.42x0.61mm)
pins: 1 ~{SHDN} (in) "Master Shutdown Input. Driving S\H\D\N\ low disables all IC functions and reduces quiescent current from the battery to less than 1uA. This pin must be pulled above 1V to enable the IC.", 2 VOUT (power) "Regulated Output Voltage of the Boost Regulator. Bypass VOUT with a low ESR, ESL ceramic capacitor between 2.2uF and 10uF. VOUT ripple increases with smaller capacitors.", 3 FB (in) "Input to the Burst Mode Comparator. An external resistor divider connected between VOUT, GND and this pin sets the output voltage to: VOUT = 1.22(1 + R1/R2)", 4 SW "Switch Pin. Connect a 15uH to 33uH inductor between SW and VIN. Keep PCB trace lengths as short and wide as possible to reduce EMI and voltage overshoot. If the inductor current falls to zero, the internal P-channel MOSFET (See Datasheet)", 5 GND (power) "Signal and Power Ground. Provide a short, direct PCB path between GND and the (-) side of the fi lter capacitors on VIN and VOUT.", 6 VIN (power) "Input Supply Pin. Bypass VIN with a low ESR, ESL ceramic capacitor of at least 1uF.", 7 EP (power) "Ground. The Exposed Pad must be soldered to PCB."

## LTC3459EDC#TRPBF
designator U?
Micropower Synchronous Boost Converter, 6-pin SON (DC6-6), -40 to 85 degC, Pb-Free, Tape and Reel; Manufacturer: Linear Technology; PartNumber: LTC3459EDC#TRPBF; Number of Outputs: 1; DatasheetVersion: Rev. C; PackageVersion: Rev. B, 06/2010; PackageReference: DC6-6; PackageDescription: 6-Pin Plastic DFN, Body 2 x 2 mm, Pitch 0.5 mm; Supplier 1: Digi-Key; Supplier Part Number 1: LTC3459EDC#TRPBF-ND; Packing: Tape and Reel; RoHS: TRUE; Mounting Technology: Surface Mount; Code_JEDEC: MO-229; ComponentLink1Description: Manufacturer URL; ComponentLink1URL: http://www.linear.com/; ComponentLink2Description: Datasheet; ComponentLink2URL: http://cds.linear.com/docs/en/datasheet/3459fc.pdf; ComponentLink3Description: Package Specification; ComponentLink3URL: http://cds.linear.com/docs/en/packaging/DFN_6_05-08-1703.pdf
footprint LT-DC6-6_V (SON, 6-Leads, Body 2x2mm, Pitch 0.5mm, Thermal Pad 1.42x0.61mm)
pins: 1 ~{SHDN} (in) "Master Shutdown Input. Driving S\H\D\N\ low disables all IC functions and reduces quiescent current from the battery to less than 1uA. This pin must be pulled above 1V to enable the IC.", 2 VOUT (power) "Regulated Output Voltage of the Boost Regulator. Bypass VOUT with a low ESR, ESL ceramic capacitor between 2.2uF and 10uF. VOUT ripple increases with smaller capacitors.", 3 FB (in) "Input to the Burst Mode Comparator. An external resistor divider connected between VOUT, GND and this pin sets the output voltage to: VOUT = 1.22(1 + R1/R2)", 4 SW "Switch Pin. Connect a 15uH to 33uH inductor between SW and VIN. Keep PCB trace lengths as short and wide as possible to reduce EMI and voltage overshoot. If the inductor current falls to zero, the internal P-channel MOSFET (See Datasheet)", 5 GND (power) "Signal and Power Ground. Provide a short, direct PCB path between GND and the (-) side of the fi lter capacitors on VIN and VOUT.", 6 VIN (power) "Input Supply Pin. Bypass VIN with a low ESR, ESL ceramic capacitor of at least 1uF.", 7 EP (power) "Ground. The Exposed Pad must be soldered to PCB."

## LTC3459EDCB#PBF
designator U?
Micropower Synchronous Boost Converter, 6-pin SON (DCB-6), -40 to 85 degC, Pb-Free; Manufacturer: Linear Technology; PartNumber: LTC3459EDCB#PBF; Number of Outputs: 1; DatasheetVersion: Rev. C; PackageVersion: Rev. A, 03/2011; PackageReference: DCB-6; PackageDescription: 6-Pin Plastic DFN, Body 2 x 3 mm, Pitch 0.5 mm; RoHS: TRUE; Mounting Technology: Surface Mount; Code_JEDEC: MO-229; ComponentLink1Description: Manufacturer URL; ComponentLink1URL: http://www.linear.com/; ComponentLink2Description: Datasheet; ComponentLink2URL: http://cds.linear.com/docs/en/datasheet/3459fc.pdf; ComponentLink3Description: Package Specification; ComponentLink3URL: http://www.linear.com/docs/en/packaging/(DCB6)%20DFN%2005-08-1715%20Rev%20A.pdf
footprint LT-DCB-6_V (SON, 6-Leads, Body 3x2mm, Pitch 0.5mm, Thermal Pad 1.65x1.35mm)
pins: 1 ~{SHDN} (in) "Master Shutdown Input. Driving S\H\D\N\ low disables all IC functions and reduces quiescent current from the battery to less than 1uA. This pin must be pulled above 1V to enable the IC.", 2 VOUT (power) "Regulated Output Voltage of the Boost Regulator. Bypass VOUT with a low ESR, ESL ceramic capacitor between 2.2uF and 10uF. VOUT ripple increases with smaller capacitors.", 3 FB (in) "Input to the Burst Mode Comparator. An external resistor divider connected between VOUT, GND and this pin sets the output voltage to: VOUT = 1.22(1 + R1/R2)", 4 SW "Switch Pin. Connect a 15uH to 33uH inductor between SW and VIN. Keep PCB trace lengths as short and wide as possible to reduce EMI and voltage overshoot. If the inductor current falls to zero, the internal P-channel MOSFET (See Datasheet)", 5 GND (power) "Signal and Power Ground. Provide a short, direct PCB path between GND and the (-) side of the fi lter capacitors on VIN and VOUT.", 6 VIN (power) "Input Supply Pin. Bypass VIN with a low ESR, ESL ceramic capacitor of at least 1uF.", 7 EP (power) "Ground. The Exposed Pad must be soldered to PCB."